# Altium schematic symbol library SchematicLib.SchLib: 6 symbols
Pins are listed as number, name and electrical type; pins without a type are passive.

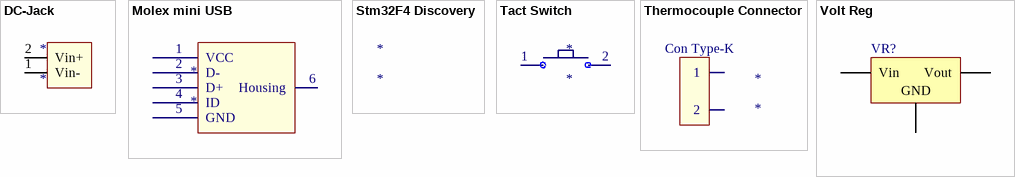
[diagram p0: symbols DC-Jack to Volt Reg]

## DC-Jack
designator *
footprint DC-Jack
pins: 1 Vin-, 2 Vin+

## Molex mini USB
designator *
Supplier 1: Mouser; Supplier Part Number 1: 538-67503-1340
footprint Mini-USB (Molex  67503-1340)
pins: 1 VCC, 2 D-, 3 D+, 4 ID, 5 GND, 6 Housing

## Stm32F4 Discovery
designator *

## Tact Switch
designator *
Supplier 1: Farnell
footprint WS-TSS 5*5mm Tact Switch
pins: 1 A, 2 B, 3 GND hidden to GND, 3 GND hidden to GND

## Thermocouple Connector
designator *
footprint K-Type Thermocouple Connector
pins: 1, 2
text: Con Type-K

## Volt Reg
designator VR?
Voltage Regulator; Published: 24-Mar-1999; LatestRevisionDate: 29-May-2009; LatestRevisionNote: IPC-7351 Footprint Added.; PackageReference: D2PAK; Publisher: Altium Limited; PackageDescription: 3-Pin Transistor Outline Package 2.54 mm Pitch, 15.1 mm Lead Span
footprint D2PAK_N (D2-PAK, 4-Leads, Body 8.8x10.4mm, Pitch 2.54mm, Lead Span 15.1mm, IPC Medium Density)
footprint SOT23-5
footprint TO-220-AB (Footprint not found)
pins: 1 Vin, 2 GND, 3 Vout